# Altium integrated library WE-MPSB_rev15b.intlib: 31 symbols
Pins are listed as number, name and electrical type; pins without a type are passive.

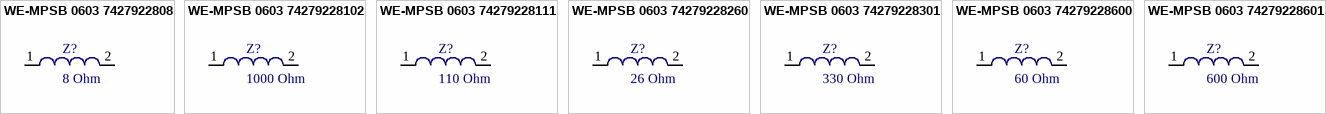
[diagram p0: symbols WE-MPSB 0603 7427922808 to WE-MPSB 0603 74279228601]

## WE-MPSB 0603 7427922808
designator Z?, comment 8 Ohm
SMD-EMI Multilayer Power  Suppression Bead WE-MPSB, Z=8 Ohms; partNo: 7427922808; Manufacturer: Würth Elektronik eiSos GmbH; Impedance: 8 Ohm; ComponentLink1Description: Manufacturer; ComponentLink1URL: http://www.we-online.de; Created by: Christin Otto; Created Date: Oct-2014; ComponentLink2Description: Datasheet; ComponentLink2URL: http://katalog.we-online.com/pbs/datasheet/7427922808.pdf
footprint WE-MPSB-0603 (Chip Inductor, 2-Leads, Body 1.6x.8mm, IPC Medium Density)
pins: 1, 2

## WE-MPSB 0603 74279228102
designator Z?, comment 1000 Ohm
SMD-EMI Multilayer Power  Suppression Bead WE-MPSB, Z=1000 Ohms; partNo: 74279228102; Manufacturer: Würth Elektronik eiSos GmbH; Impedance: 1000 Ohm; ComponentLink1Description: Manufacturer; ComponentLink1URL: http://www.we-online.de; Created by: Christin Otto; Created Date: Oct-2014; ComponentLink2Description: Datasheet; ComponentLink2URL: http://katalog.we-online.com/pbs/datasheet/74279228102.pdf
footprint WE-MPSB-0603 (Chip Inductor, 2-Leads, Body 1.6x.8mm, IPC Medium Density)
pins: 1, 2

## WE-MPSB 0603 74279228111
designator Z?, comment 110 Ohm
SMD-EMI Multilayer Power  Suppression Bead WE-MPSB, Z=110 Ohms; partNo: 74279228111; Manufacturer: Würth Elektronik eiSos GmbH; Impedance: 110 Ohm; ComponentLink1Description: Manufacturer; ComponentLink1URL: http://www.we-online.de; Created by: Christin Otto; Created Date: Oct-2014; ComponentLink2Description: Datasheet; ComponentLink2URL: http://katalog.we-online.com/pbs/datasheet/74279228111.pdf
footprint WE-MPSB-0603 (Chip Inductor, 2-Leads, Body 1.6x.8mm, IPC Medium Density)
pins: 1, 2

## WE-MPSB 0603 74279228260
designator Z?, comment 26 Ohm
SMD-EMI Multilayer Power  Suppression Bead WE-MPSB, Z=26Ohms; partNo: 74279228260; Manufacturer: Würth Elektronik eiSos GmbH; Impedance: 26 Ohm; ComponentLink1Description: Manufacturer; ComponentLink1URL: http://www.we-online.de; Created by: Christin Otto; Created Date: Oct-2014; ComponentLink2Description: Datasheet; ComponentLink2URL: http://katalog.we-online.com/pbs/datasheet/74279228260.pdf
footprint WE-MPSB-0603 (Chip Inductor, 2-Leads, Body 1.6x.8mm, IPC Medium Density)
pins: 1, 2

## WE-MPSB 0603 74279228301
designator Z?, comment 330 Ohm
SMD-EMI Multilayer Power  Suppression Bead WE-MPSB, Z=330 Ohms; partNo: 74279228301; Manufacturer: Würth Elektronik eiSos GmbH; Impedance: 330 Ohm; ComponentLink1Description: Manufacturer; ComponentLink1URL: http://www.we-online.de; Created by: Christin Otto; Created Date: Oct-2014; ComponentLink2Description: Datasheet; ComponentLink2URL: http://katalog.we-online.com/pbs/datasheet/74279228301.pdf
footprint WE-MPSB-0603 (Chip Inductor, 2-Leads, Body 1.6x.8mm, IPC Medium Density)
pins: 1, 2

## WE-MPSB 0603 74279228600
designator Z?, comment 60 Ohm
SMD-EMI Multilayer Power  Suppression Bead WE-MPSB, Z=60 Ohms; partNo: 74279228600; Manufacturer: Würth Elektronik eiSos GmbH; Impedance: 60 Ohm; ComponentLink1Description: Manufacturer; ComponentLink1URL: http://www.we-online.de; Created by: Christin Otto; Created Date: Oct-2014; ComponentLink2Description: Datasheet; ComponentLink2URL: http://katalog.we-online.com/pbs/datasheet/74279228600.pdf
footprint WE-MPSB-0603 (Chip Inductor, 2-Leads, Body 1.6x.8mm, IPC Medium Density)
pins: 1, 2

## WE-MPSB 0603 74279228601
designator Z?, comment 600 Ohm
SMD-EMI Multilayer Power  Suppression Bead WE-MPSB, Z=600 Ohms; partNo: 74279228601; Manufacturer: Würth Elektronik eiSos GmbH; Impedance: 600 Ohm; ComponentLink1Description: Manufacturer; ComponentLink1URL: http://www.we-online.de; Created by: Christin Otto; Created Date: Oct-2014; ComponentLink2Description: Datasheet; ComponentLink2URL: http://katalog.we-online.com/pbs/datasheet/74279228601.pdf
footprint WE-MPSB-0603 (Chip Inductor, 2-Leads, Body 1.6x.8mm, IPC Medium Density)
pins: 1, 2


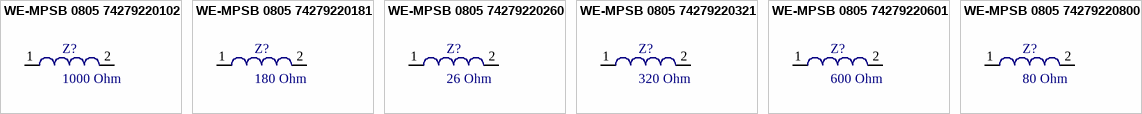
[diagram p1: symbols WE-MPSB 0805 74279220102 to WE-MPSB 0805 74279220800]

## WE-MPSB 0805 74279220102
designator Z?, comment 1000 Ohm
SMD-EMI Multilayer Power  Suppression Bead WE-MPSB, Z=1000 Ohms; partNo: 74279220102; Manufacturer: Würth Elektronik eiSos GmbH; Impedance: 1000 Ohm; ComponentLink1Description: Manufacturer; ComponentLink1URL: http://www.we-online.de; Created by: Christin Otto; Created Date: Oct-2014; ComponentLink2Description: Datasheet; ComponentLink2URL: http://katalog.we-online.com/pbs/datasheet/74279220102.pdf
footprint WE-MPSB-0805 (Chip Inductor, 2-Leads, Body 2x1.2mm, IPC Medium Density)
pins: 1, 2

## WE-MPSB 0805 74279220181
designator Z?, comment 180 Ohm
SMD-EMI Multilayer Power  Suppression Bead WE-MPSB, Z=180 Ohms; partNo: 74279220181; Manufacturer: Würth Elektronik eiSos GmbH; Impedance: 180 Ohm; ComponentLink1Description: Manufacturer; ComponentLink1URL: http://www.we-online.de; Created by: Christin Otto; Created Date: Oct-2014; ComponentLink2Description: Datasheet; ComponentLink2URL: http://katalog.we-online.com/pbs/datasheet/74279220181.pdf
footprint WE-MPSB-0805 (Chip Inductor, 2-Leads, Body 2x1.2mm, IPC Medium Density)
pins: 1, 2

## WE-MPSB 0805 74279220260
designator Z?, comment 26 Ohm
SMD-EMI Multilayer Power  Suppression Bead WE-MPSB, Z=26 Ohms; partNo: 74279220260; Manufacturer: Würth Elektronik eiSos GmbH; Impedance: 26 Ohm; ComponentLink1Description: Manufacturer; ComponentLink1URL: http://www.we-online.de; Created by: Christin Otto; Created Date: Oct-2014; ComponentLink2Description: Datasheet; ComponentLink2URL: http://katalog.we-online.com/pbs/datasheet/74279220260.pdf
footprint WE-MPSB-0805 (Chip Inductor, 2-Leads, Body 2x1.2mm, IPC Medium Density)
pins: 1, 2

## WE-MPSB 0805 74279220321
designator Z?, comment 320 Ohm
SMD-EMI Multilayer Power  Suppression Bead WE-MPSB, Z=320 Ohms; partNo: 74279220321; Manufacturer: Würth Elektronik eiSos GmbH; Impedance: 320 Ohm; ComponentLink1Description: Manufacturer; ComponentLink1URL: http://www.we-online.de; Created by: Christin Otto; Created Date: Oct-2014; ComponentLink2Description: Datasheet; ComponentLink2URL: http://katalog.we-online.com/pbs/datasheet/74279220321.pdf
footprint WE-MPSB-0805 (Chip Inductor, 2-Leads, Body 2x1.2mm, IPC Medium Density)
pins: 1, 2

## WE-MPSB 0805 74279220601
designator Z?, comment 600 Ohm
SMD-EMI Multilayer Power  Suppression Bead WE-MPSB, Z=600 Ohms; partNo: 74279220601; Manufacturer: Würth Elektronik eiSos GmbH; Impedance: 600 Ohm; ComponentLink1Description: Manufacturer; ComponentLink1URL: http://www.we-online.de; Created by: Christin Otto; Created Date: Oct-2014; ComponentLink2Description: Datasheet; ComponentLink2URL: http://katalog.we-online.com/pbs/datasheet/74279220601.pdf
footprint WE-MPSB-0805 (Chip Inductor, 2-Leads, Body 2x1.2mm, IPC Medium Density)
pins: 1, 2

## WE-MPSB 0805 74279220800
designator Z?, comment 80 Ohm
SMD-EMI Multilayer Power  Suppression Bead WE-MPSB, Z=80 Ohms; partNo: 74279220800; Manufacturer: Würth Elektronik eiSos GmbH; Impedance: 80 Ohm; ComponentLink1Description: Manufacturer; ComponentLink1URL: http://www.we-online.de; Created by: Christin Otto; Created Date: Oct-2014; ComponentLink2Description: Datasheet; ComponentLink2URL: http://katalog.we-online.com/pbs/datasheet/74279220800.pdf
footprint WE-MPSB-0805 (Chip Inductor, 2-Leads, Body 2x1.2mm, IPC Medium Density)
pins: 1, 2


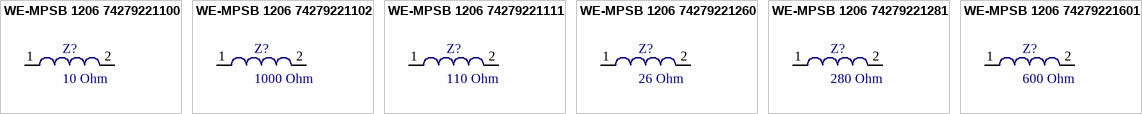
[diagram p2: symbols WE-MPSB 1206 74279221100 to WE-MPSB 1206 74279221601]

## WE-MPSB 1206 74279221100
designator Z?, comment 10 Ohm
SMD-EMI Multilayer Power  Suppression Bead WE-MPSB, Z=10 Ohms; partNo: 74279221100; Manufacturer: Würth Elektronik eiSos GmbH; Impedance: 10 Ohm; ComponentLink1Description: Manufacturer; ComponentLink1URL: http://www.we-online.de; Created by: Christin Otto; Created Date: Oct-2014; ComponentLink2Description: Datasheet; ComponentLink2URL: http://katalog.we-online.com/pbs/datasheet/74279221100.pdf
footprint WE-MPSB-1206 (Chip Inductor, 2-Leads, Body 3.2x1.6mm, IPC Medium Density)
pins: 1, 2

## WE-MPSB 1206 74279221102
designator Z?, comment 1000 Ohm
SMD-EMI Multilayer Power  Suppression Bead WE-MPSB, Z=1000 Ohms; partNo: 74279221102; Manufacturer: Würth Elektronik eiSos GmbH; Impedance: 1000 Ohm; ComponentLink1Description: Manufacturer; ComponentLink1URL: http://www.we-online.de; Created by: Christin Otto; Created Date: Oct-2014; ComponentLink2Description: Datasheet; ComponentLink2URL: http://katalog.we-online.com/pbs/datasheet/74279221102.pdf
footprint WE-MPSB-1206 (Chip Inductor, 2-Leads, Body 3.2x1.6mm, IPC Medium Density)
pins: 1, 2

## WE-MPSB 1206 74279221111
designator Z?, comment 110 Ohm
SMD-EMI Multilayer Power  Suppression Bead WE-MPSB, Z=110 Ohms; partNo: 74279221111; Manufacturer: Würth Elektronik eiSos GmbH; Impedance: 110 Ohm; ComponentLink1Description: Manufacturer; ComponentLink1URL: http://www.we-online.de; Created by: Christin Otto; Created Date: Oct-2014; ComponentLink2Description: Datasheet; ComponentLink2URL: http://katalog.we-online.com/pbs/datasheet/74279221111.pdf
footprint WE-MPSB-1206 (Chip Inductor, 2-Leads, Body 3.2x1.6mm, IPC Medium Density)
pins: 1, 2

## WE-MPSB 1206 74279221260
designator Z?, comment 26 Ohm
SMD-EMI Multilayer Power  Suppression Bead WE-MPSB, Z=26 Ohms; partNo: 74279221260; Manufacturer: Würth Elektronik eiSos GmbH; Impedance: 26 Ohm; ComponentLink1Description: Manufacturer; ComponentLink1URL: http://www.we-online.de; Created by: Christin Otto; Created Date: Oct-2014; ComponentLink2Description: Datasheet; ComponentLink2URL: http://katalog.we-online.com/pbs/datasheet/74279221260.pdf
footprint WE-MPSB-1206 (Chip Inductor, 2-Leads, Body 3.2x1.6mm, IPC Medium Density)
pins: 1, 2

## WE-MPSB 1206 74279221281
designator Z?, comment 280 Ohm
SMD-EMI Multilayer Power  Suppression Bead WE-MPSB, Z=280 Ohms; partNo: 74279221281; Manufacturer: Würth Elektronik eiSos GmbH; Impedance: 280 Ohm; ComponentLink1Description: Manufacturer; ComponentLink1URL: http://www.we-online.de; Created by: Christin Otto; Created Date: Oct-2014; ComponentLink2Description: Datasheet; ComponentLink2URL: http://katalog.we-online.com/pbs/datasheet/74279221281.pdf
footprint WE-MPSB-1206 (Chip Inductor, 2-Leads, Body 3.2x1.6mm, IPC Medium Density)
pins: 1, 2

## WE-MPSB 1206 74279221601
designator Z?, comment 600 Ohm
SMD-EMI Multilayer Power  Suppression Bead WE-MPSB, Z=600 Ohms; partNo: 74279221601; Manufacturer: Würth Elektronik eiSos GmbH; Impedance: 600 Ohm; ComponentLink1Description: Manufacturer; ComponentLink1URL: http://www.we-online.de; Created by: Christin Otto; Created Date: Oct-2014; ComponentLink2Description: Datasheet; ComponentLink2URL: http://katalog.we-online.com/pbs/datasheet/74279221601.pdf
footprint WE-MPSB-1206 (Chip Inductor, 2-Leads, Body 3.2x1.6mm, IPC Medium Density)
pins: 1, 2


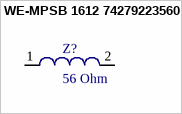
[diagram p3: symbol WE-MPSB 1612 74279223560]

## WE-MPSB 1612 74279223560
designator Z?, comment 56 Ohm
SMD-EMI Multilayer Power  Suppression Bead WE-MPSB, Z=56 Ohms; partNo: 74279223560; Manufacturer: W黵th Elektronik eiSos GmbH; Impedance: 56 Ohm; ComponentLink1Description: Manufacturer; ComponentLink1URL: http://www.we-online.de; Created by: Christin Otto; Created Date: Oct 2014; ComponentLink2Description: Datasheet; ComponentLink2URL: http://katalog.we-online.com/pbs/datasheet/74279223560.pdf
footprint WE-MPSB-1612 (Chip Inductor, 2-Leads, Body 4.1x3.1mm, IPC Medium Density)
pins: 1, 2


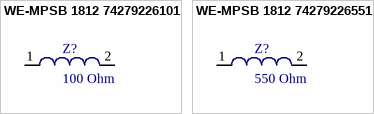
[diagram p4: symbols WE-MPSB 1812 74279226101 to WE-MPSB 1812 74279226551]

## WE-MPSB 1812 74279226101
designator Z?, comment 100 Ohm
SMD-EMI Multilayer Power  Suppression Bead WE-MPSB, Z=100 Ohms, L; partNo: 74279226101; Manufacturer: Würth Elektronik eiSos GmbH; Impedance: 100 Ohm; ComponentLink1Description: Manufacturer; ComponentLink1URL: http://www.we-online.de; Created by: Christin Otto; Created Date: Oct 2014; ComponentLink2Description: Datasheet; ComponentLink2URL: http://katalog.we-online.com/pbs/datasheet/74279226101.pdf
footprint WE-MPSB-1812 (Chip Inductor, 2-Leads, Body 4.5x3.2mm, IPC Medium Density)
pins: 1, 2

## WE-MPSB 1812 74279226551
designator Z?, comment 550 Ohm
SMD-EMI Multilayer Power  Suppression Bead WE-MPSB, Z=550 Ohms; partNo: 74279226551; Manufacturer: Würth Elektronik eiSos GmbH; Impedance: 550 Ohm; ComponentLink1Description: Manufacturer; ComponentLink1URL: http://www.we-online.de; Created by: Christin Otto; Created Date: Oct 2014; ComponentLink2Description: Datasheet; ComponentLink2URL: http://katalog.we-online.com/pbs/datasheet/74279226551.pdf
footprint WE-MPSB-1812 (Chip Inductor, 2-Leads, Body 4.5x3.2mm, IPC Medium Density)
pins: 1, 2


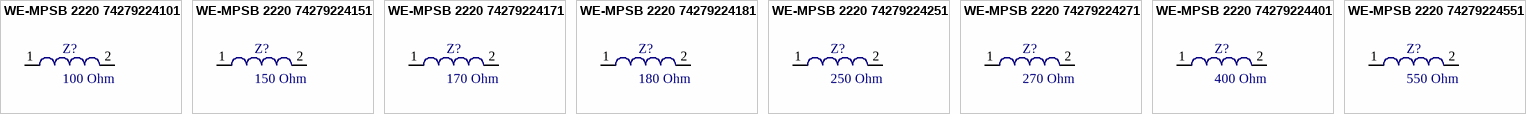
[diagram p5: symbols WE-MPSB 2220 74279224101 to WE-MPSB 2220 74279224551]

## WE-MPSB 2220 74279224101
designator Z?, comment 100 Ohm
SMD-EMI Multilayer Power  Suppression Bead WE-MPSB, Z=100 Ohms; partNo: 74279224101; Manufacturer: Würth Elektronik eiSos GmbH; Impedance: 100 Ohm; ComponentLink1Description: Manufacturer; ComponentLink1URL: http://www.we-online.de; Created by: Christin Otto; Created Date: Oct 2014; ComponentLink2Description: Datasheet; ComponentLink2URL: http://katalog.we-online.com/pbs/datasheet/74279224101.pdf
footprint WE-MPSB-2220-H-1.8 (Chip Inductor, 2-Leads, Body 5.6x5.1mm, IPC Medium Density)
pins: 1, 2

## WE-MPSB 2220 74279224151
designator Z?, comment 150 Ohm
SMD-EMI Multilayer Power  Suppression Bead WE-MPSB, Z=150 Ohms; partNo: 74279224151; Manufacturer: Würth Elektronik eiSos GmbH; Impedance: 150 Ohm; ComponentLink1Description: Manufacturer; ComponentLink1URL: http://www.we-online.de; Created by: Christin Otto; Created Date: Oct 2014; ComponentLink2Description: Datasheet; ComponentLink2URL: http://katalog.we-online.com/pbs/datasheet/74279224151.pdf
footprint WE-MPSB-2220-H-1.8 (Chip Inductor, 2-Leads, Body 5.6x5.1mm, IPC Medium Density)
pins: 1, 2

## WE-MPSB 2220 74279224171
designator Z?, comment 170 Ohm
SMD-EMI Multilayer Power  Suppression Bead WE-MPSB, Z=170 Ohms; partNo: 74279224171; Manufacturer: Würth Elektronik eiSos GmbH; Impedance: 170 Ohm; ComponentLink1Description: Manufacturer; ComponentLink1URL: http://www.we-online.de; Created by: Christin Otto; Created Date: Oct 2014; ComponentLink2Description: Datasheet; ComponentLink2URL: http://katalog.we-online.com/pbs/datasheet/74279224171.pdf
footprint WE-MPSB-2220-H-1.52 (Chip Inductor, 2-Leads, Body 5.6x5.1mm, IPC Medium Density)
pins: 1, 2

## WE-MPSB 2220 74279224181
designator Z?, comment 180 Ohm
SMD-EMI Multilayer Power  Suppression Bead WE-MPSB, Z=180 Ohms; partNo: 74279224181; Manufacturer: Würth Elektronik eiSos GmbH; Impedance: 180 Ohm; ComponentLink1Description: Manufacturer; ComponentLink1URL: http://www.we-online.de; Created by: Christin Otto; Created Date: Oct 2014; ComponentLink2Description: Datasheet; ComponentLink2URL: http://katalog.we-online.com/pbs/datasheet/74279224181.pdf
footprint WE-MPSB-2220-H-1.8 (Chip Inductor, 2-Leads, Body 5.6x5.1mm, IPC Medium Density)
pins: 1, 2

## WE-MPSB 2220 74279224251
designator Z?, comment 250 Ohm
SMD-EMI Multilayer Power  Suppression Bead WE-MPSB, Z=250 Ohms; partNo: 74279224251; Manufacturer: Würth Elektronik eiSos GmbH; Impedance: 250 Ohm; ComponentLink1Description: Manufacturer; ComponentLink1URL: http://www.we-online.de; Created by: Christin Otto; Created Date: Oct 2014; ComponentLink2Description: Datasheet; ComponentLink2URL: http://katalog.we-online.com/pbs/datasheet/74279224251.pdf
footprint WE-MPSB-2220-H-1.8 (Chip Inductor, 2-Leads, Body 5.6x5.1mm, IPC Medium Density)
pins: 1, 2

## WE-MPSB 2220 74279224271
designator Z?, comment 270 Ohm
SMD-EMI Multilayer Power  Suppression Bead WE-MPSB, Z=270 Ohms; partNo: 74279224271; Manufacturer: Würth Elektronik eiSos GmbH; Impedance: 270 Ohm; ComponentLink1Description: Manufacturer; ComponentLink1URL: http://www.we-online.de; Created by: Christin Otto; Created Date: Oct 2014; ComponentLink2Description: Datasheet; ComponentLink2URL: http://katalog.we-online.com/pbs/datasheet/74279224271.pdf
footprint WE-MPSB-2220-H-3.2 (Chip Inductor, 2-Leads, Body 5.6x5.1mm, IPC Medium Density)
pins: 1, 2

## WE-MPSB 2220 74279224401
designator Z?, comment 400 Ohm
SMD-EMI Multilayer Power  Suppression Bead WE-MPSB, Z=400 Ohms; partNo: 74279224401; Manufacturer: Würth Elektronik eiSos GmbH; Impedance: 400 Ohm; ComponentLink1Description: Manufacturer; ComponentLink1URL: http://www.we-online.de; Created by: Christin Otto; Created Date: Oct 2014; ComponentLink2Description: Datasheet; ComponentLink2URL: http://katalog.we-online.com/pbs/datasheet/74279224401.pdf
footprint WE-MPSB-2220-H-3.2 (Chip Inductor, 2-Leads, Body 5.6x5.1mm, IPC Medium Density)
pins: 1, 2

## WE-MPSB 2220 74279224551
designator Z?, comment 550 Ohm
SMD-EMI Multilayer Power  Suppression Bead WE-MPSB, Z=550 Ohms; partNo: 74279224551; Manufacturer: Würth Elektronik eiSos GmbH; Impedance: 550 Ohm; ComponentLink1Description: Manufacturer; ComponentLink1URL: http://www.we-online.de; Created by: Christin Otto; Created Date: Oct 2014; ComponentLink2Description: Datasheet; ComponentLink2URL: http://katalog.we-online.com/pbs/datasheet/74279224551.pdf
footprint WE-MPSB-2220-H-1.97 (Chip Inductor, 2-Leads, Body 5.6x5.1mm, IPC Medium Density)
pins: 1, 2


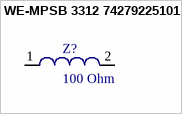
[diagram p6: symbol WE-MPSB 3312 74279225101]

## WE-MPSB 3312 74279225101
designator Z?, comment 100 Ohm
SMD-EMI Multilayer Power  Suppression Bead, WE-MPSB, Z=100 Ohms; partNo: 74279225101; Manufacturer: W黵th Elektronik eiSos GmbH; Impedance: 100 Ohm; ComponentLink1Description: Manufacturer; ComponentLink1URL: http://www.we-online.de; Created by: Christin Otto; Created Date: Oct 2014; ComponentLink2Description: Datasheet; ComponentLink2URL: http://katalog.we-online.com/pbs/datasheet/74279225101.pdf
footprint WE-MPSB-3312 (Chip Inductor, 2-Leads, Body 8.5x3.0mm, IPC Medium Density)
pins: 1, 2